# Altium footprint library Devices.PcbLib: 190 footprints (part 10 of 12)
Each footprint in its own frame and in the unit in brackets; x right, y up, seen from the top. Pads: shape width x height; smd on the part's side, far side on the other; paste and mask are expansions set on the pad; w line width, h text height; cw(c..) or ccw(c..) is an arc to the next point about the centre after c.
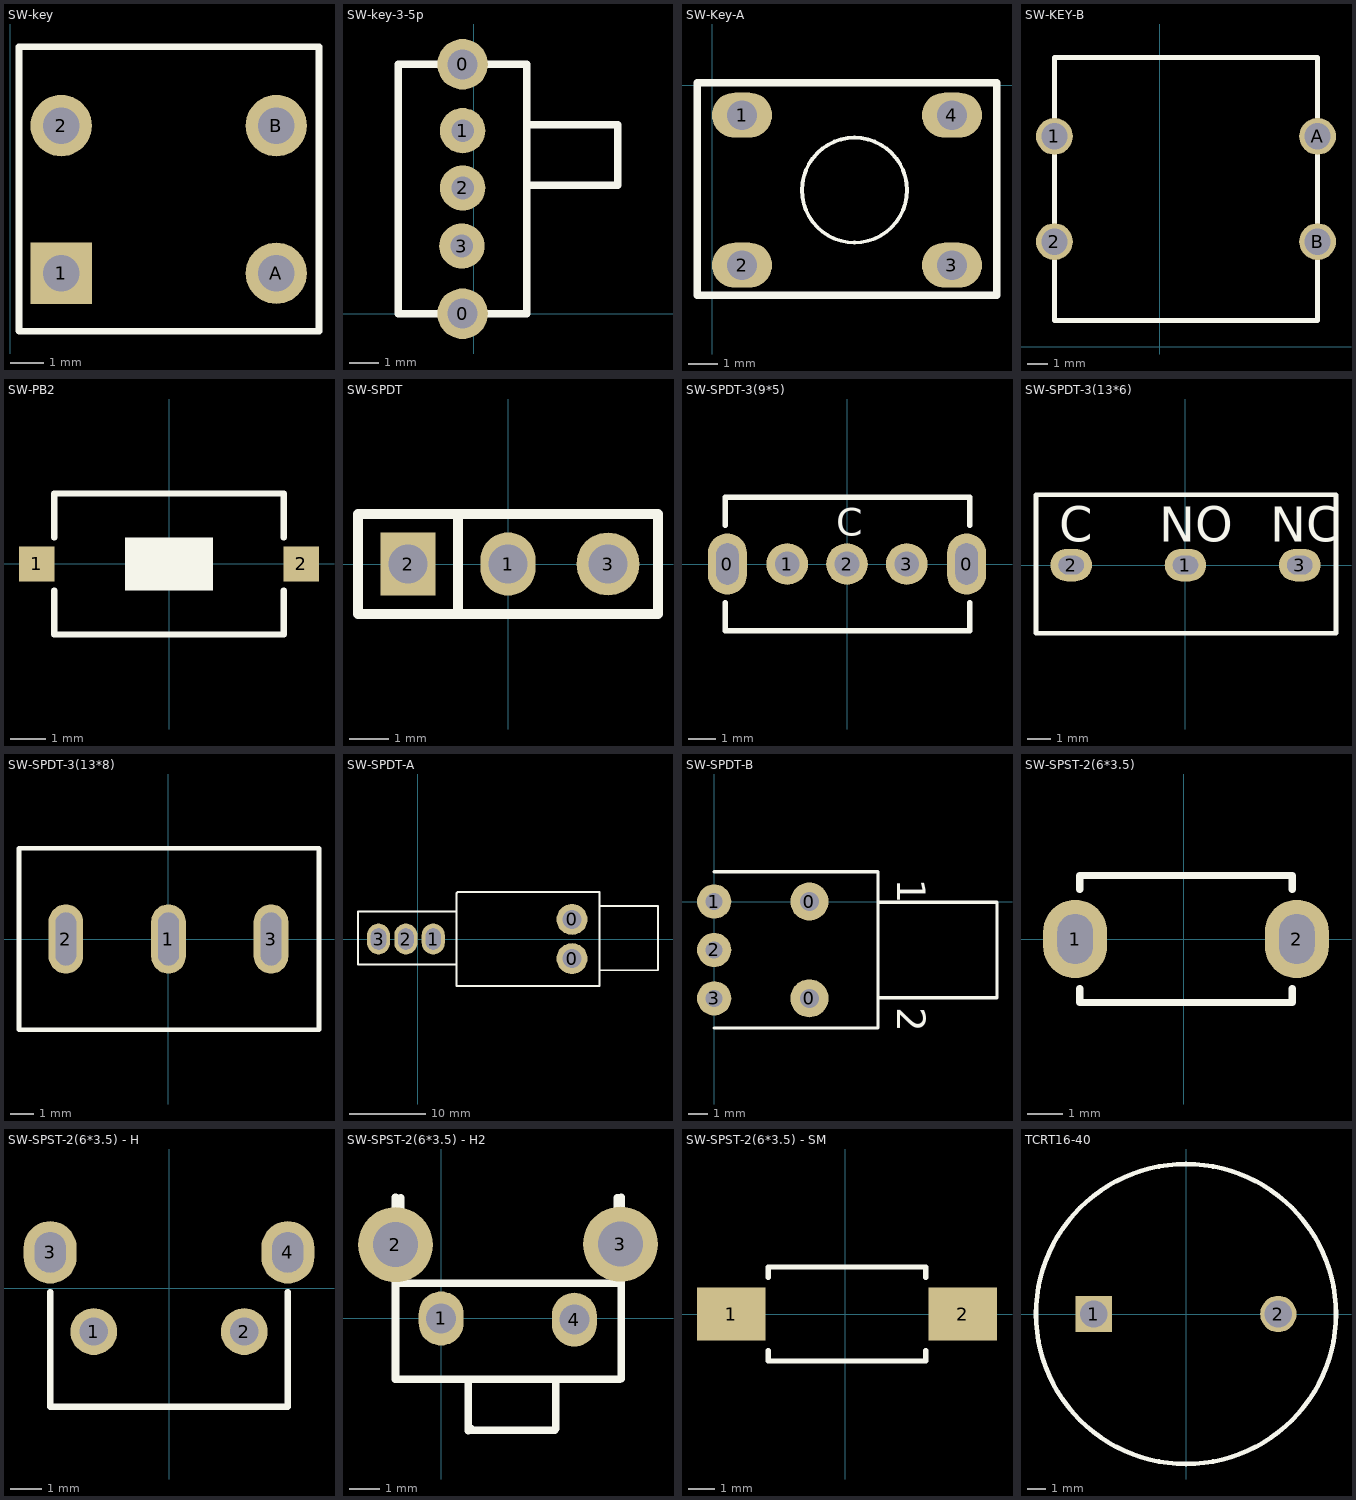
[diagram p9: the footprints below, top view; thin cyan lines are the x and y axes]

## SW-key [mm]
pads (4):
  rect 1.85x1.85 hole 1.1: 1(1.537,8.02)
  round 1.85 hole 1.1: 2(1.537,12.465) A(8.014,8.02) B(8.014,12.465)
Top Overlay:
  lines w0.2: 0.267,6.28 9.3,6.273 9.3,14.839 0.267,14.84 0.267,6.28

## SW-key-3-5p [mil]
pads (5):
  round 66.93 hole 39.76: 0(-15,0) 0(-15,330)
  round 60 hole 30: 1(-15,242.13) 2(-15,166.34) 3(-15.98,89.57)
Top Overlay:
  lines w10: 70,170 190,170 190,250 70,250 ; -100,0 -100,330 70,330 70,0 -100,0

## SW-Key-A [mil]
pads (4):
  oval 80x60 hole 39.37: 1(40,-40) 2(40,-240) 3(320,-240) 4(320,-40)
Top Overlay:
  circle w5: c190,-140 r70
  lines w10: -20,-280 140,-280 380,-280 380,-240 380,2.99 371.02,2.99 8.82,2.99 -20,2.99 -20,0 -20,-240 -20,-280

## SW-KEY-B [mil]
pads (4):
  round 70 hole 50: 1(-200,400) 2(-200,200) A(300,400) B(300,200)
Top Overlay:
  lines w10: -200,50 -200,550 300,550 300,50 -200,50

## SW-PB2 [mm]
pads (2):
  rect 1x1 smd: 1(-3.756,-0.007) 2(3.744,-0.007)
Top Overlay:
  rectangle: -1.256,-0.757 1.244,0.743
  lines w0.178: -3.256,-0.757 -3.256,-2.007 3.244,-2.007 3.244,-0.757 ; -3.256,0.743 -3.256,1.993 3.244,1.993 3.244,0.743

## SW-SPDT [mm]
pads (3):
  oval 1.4x1.6 hole 1: 1(0,0)
  rect 1.4x1.6 hole 1: 2(-2.54,0)
  round 1.6 hole 1: 3(2.54,0)
Top Overlay:
  lines w0.254: -1.27,-1.27 -1.27,1.27 ; -3.81,-1.27 -3.81,1.27 3.81,1.27 3.81,-1.27 -3.81,-1.27

## SW-SPDT-3(9*5) [mm]
pads (5):
  oval 1.4x2.2 hole 1.5 slot 0.8 at 0 deg: 0(-4.318,0) 0(4.318,0)
  round 1.5 hole 0.9: 1(-2.159,0) 2(0,0) 3(2.159,0)
Top Overlay:
  lines w0.2: -4.4,-1.397 -4.4,-2.413 4.428,-2.413 4.428,-1.397 ; -4.4,1.397 -4.4,2.413 4.428,2.413 4.428,1.397
  text "C" at -0.381,1.016 h1

## SW-SPDT-3(13*6) [mm]
pads (3):
  oval 1.8x1.4 hole 0.8 slot 1.1 at 0 deg: 1(0,0) 2(-4.953,0) 3(4.953,0)
Top Overlay:
  lines w0.2: -6.477,-2.952 -6.477,3.048 6.523,3.048 6.523,-2.952 -6.477,-2.952
  text "NO" at -1.143,1.016 h1.52
  text "NC" at 3.683,1.016 h1.52
  text "C" at -5.461,1.016 h1.52

## SW-SPDT-3(13*8) [mm]
pads (3):
  oval 1.5x3 hole 2.3 slot 0.9 at 0 deg: 1(0,0) 2(-4.445,0) 3(4.445,0)
Top Overlay:
  lines w0.2: -6.477,-3.937 6.523,-3.937 6.523,3.937 -6.477,3.937 -6.477,-3.937

## SW-SPDT-A [mm]
pads (5):
  round 4 hole 2.5: 0(20.066,-2.54) 0(20.066,2.54)
  oval 3x4 hole 2 slot 2.75 at 90 deg: 1(2.032,0) 2(-1.524,0) 3(-5.08,0)
Top Overlay:
  lines w0.254: 23.622,-4.064 31.242,-4.064 31.242,4.318 23.622,4.318 ; 5.08,-3.302 -7.747,-3.302 -7.747,3.556 5.08,3.556 ; 5.08,-3.302 5.08,-6.096 23.622,-6.096 23.622,6.096 5.207,6.096 5.08,5.969 5.08,3.556 ; 5.08,-3.302 5.08,3.556

## SW-SPDT-B [mm]
pads (5):
  round 2 hole 1: 0(4.992,-5.08) 0(4.992,0)
  round 1.8 hole 0.9: 1(-0.008,0) 2(-0.008,-2.54) 3(-0.008,-5.08)
Top Overlay:
  lines w0.178: -0.008,-6.64 8.592,-6.64 8.592,1.56 -0.008,1.56 ; 8.592,-5.04 14.842,-5.04 14.842,-0.04 8.592,-0.04
  text "2" at 9.592,-5.54 h1.5
  text "1" at 9.592,1.21 h1.5

## SW-SPST-2(6*3.5) [mm] "Circuit Breaker; 2 Leads"
pads (2):
  oval 1.8x2.2 hole 1.4 slot 1 at 0 deg: 1(-3.048,0) 2(3.175,0)
Top Overlay:
  lines w0.2: -2.921,-1.397 -2.921,-1.778 3.048,-1.778 3.048,-1.397 ; -2.921,1.397 -2.921,1.778 3.048,1.778 3.048,1.397

## SW-SPST-2(6*3.5) - H [mm] "Circuit Breaker; 2 Leads"
pads (4):
  round 1.5 hole 0.9: 1(-2.413,-1.397) 2(2.413,-1.397)
  oval 1.7x2 hole 1.3 slot 1 at 0 deg: 3(-3.81,1.143) 4(3.81,1.143)
Top Overlay:
  lines w0.2: -3.81,-0.127 -3.81,-3.81 3.81,-3.81 3.81,-0.127

## SW-SPST-2(6*3.5) - H2 [mm]
pads (4):
  oval 1.5x1.8 hole 1: 1(0,0) 4(4.44,-0.04)
  round 2.5 hole 1.5: 2(-1.52,2.46) 3(5.98,2.48)
Top Overlay:
  lines w0.254: -1.52,4.04 -1.52,-2.02 5.96,-2.02 ; -1.48,1.18 6,1.18 ; -1.34,4.02 -1.34,1.32 -1.32,1.3 ; 0.9,-2.02 0.9,-3.74 0.98,-3.66 ; 0.94,-3.72 3.78,-3.72 3.82,-3.68 3.82,-2.12 ; 5.88,1.36 5.88,4.02 ; 6,-2 6,4.04

## SW-SPST-2(6*3.5) - SM [mm] "Circuit Breaker; 2 Leads"
pads (2):
  rect 2.6x2 smd: 1(-4.318,0) 2(4.445,0)
Top Overlay:
  lines w0.2: -2.921,-1.397 -2.921,-1.778 3.048,-1.778 3.048,-1.397 ; -2.921,1.397 -2.921,1.778 3.048,1.778 3.048,1.397

## TCRT16-40 [mm]
pads (2):
  rect 2x2 hole 1.5: 1(-5.08,0)
  round 2 hole 1.5: 2(5.08,0)
Top Overlay:
  circle w0.254: c0,0 r8.255